# Altium schematic symbol library Connector.SchLib: 2 symbols
Pins are listed as number, name and electrical type; pins without a type are passive.

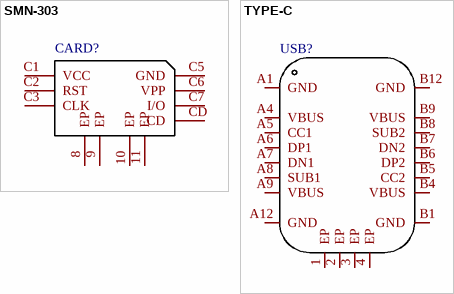
[diagram p0: symbols SMN-303 to TYPE-C]

## SMN-303
designator CARD?  (value not drawn)
卡连接方式:自弹式;卡类型:NanoSIM卡;连接器类型:卡座;本体最大高度:1.4mm;触头材质:-;触头镀层:-;工作温度范围:-;; Manufacturer: XUNPU(讯普); Add into BOM: yes; Card Connection Mode: 自弹式; Connector Type: 卡座; Body Height (Max): 1.4mm; Name: SMN-303; Symbol: SMN-303; Device: SMN-303; LCSC Part Name: 自弹式NanoSIM卡卡座6+1Pin带CD防呆; Supplier Part: C266888; Manufacturer Part: SMN-303; Supplier Footprint: SMD; JLCPCB Part Class: ExtendedPart; Datasheet: https://atta.szlcsc.com/upload/public/pdf/source/20211019/D7CABD700EC9AD7534EBB952F0541976.pdf; Supplier: LCSC; Convert to PCB: yes; Card Type: NanoSIM卡; Contact Material: -; Contact Plating: -; Operating Temperature Range: -; NO_CONNECT: yes
footprint SIM-SMD_SMN-303
pins: 8 EP, 9 EP, 10 EP, 11 EP, C1 VCC, C2 RST, C3 CLK, C5 GND, C6 VPP, C7 I/O, CD

## TYPE-C
designator USB?  (value not drawn)
Symbol: TYPE-C-16P; Convert to PCB: yes; Name: TYPE-C; Device: TYPE-C; Add into BOM: yes; NO_CONNECT: yes
footprint USB-C-SMD_TYPE-C-16P
pins: 1 EP, 2 EP, 3 EP, 4 EP, A1 GND, A4 VBUS, A5 CC1, A6 DP1, A7 DN1, A8 SUB1, A9 VBUS, A12 GND, B1 GND, B4 VBUS, B5 CC2, B6 DP2, B7 DN2, B8 SUB2, B9 VBUS, B12 GND